# Altium footprint library M3.PcbLib: 33 footprints (part 3 of 3)
Each footprint in its own frame and in the unit in brackets; x right, y up, seen from the top. Pads: shape width x height; smd on the part's side, far side on the other; paste and mask are expansions set on the pad; w line width, h text height; cw(c..) or ccw(c..) is an arc to the next point about the centre after c.
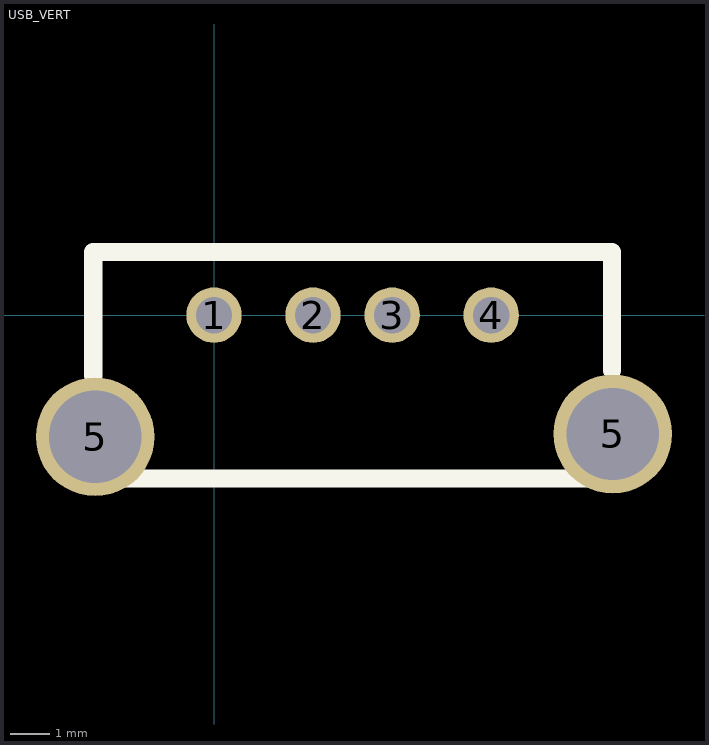
[diagram p2: the footprint, top view; thin cyan lines are the x and y axes]

## USB_VERT [mm]
pads (6):
  round 1.4 hole 0.92: 1(0,0) 2(2.5,0) 3(4.5,0) 4(7,0)
  round 3 hole 2.33: 5(-3,-3.07) 5(10.07,-3)
Top Overlay:
  lines w0.457: -3.05,-1.524 -3.05,1.6 10.05,1.6 10.05,-1.397 ; -3.048,-4.12 10.16,-4.12
3D body: height 13.7, standoff 0, extent -3.048,-4.064 10.033,1.524